# Altium footprint library TO-220AB-MOSFET.PcbLib: 1 footprints
Each footprint in its own frame and in the unit in brackets; x right, y up, seen from the top. Pads: shape width x height; smd on the part's side, far side on the other; paste and mask are expansions set on the pad; w line width, h text height; cw(c..) or ccw(c..) is an arc to the next point about the centre after c.
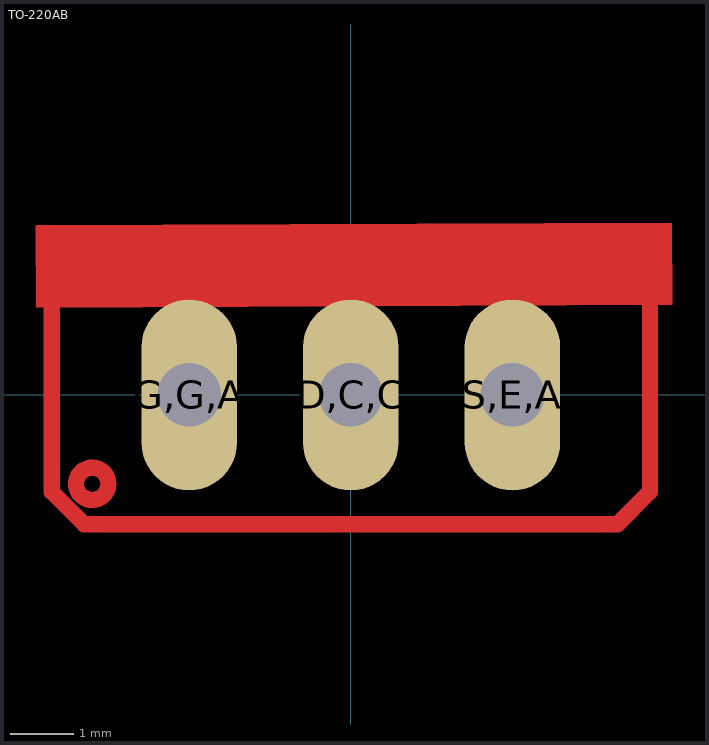
[diagram p0: the footprint, top view; thin cyan lines are the x and y axes]

## TO-220AB [mm] "TO-220AB, MOSFET, DIODE, BJT"
height 17
pads (3):
  oval 1.5x3 hole 1: D,C,C(0,0) G,G,A(-2.54,0) S,E,A(2.54,0)
Top Layer:
  circle w0.254: c-4.064,-1.397 r0.254
  region: -4.947,1.367 5.053,1.412 5.047,2.712 -4.953,2.667
  lines w0.254: -4.699,1.412 -4.699,-1.524 -4.191,-2.032 4.191,-2.032 4.699,-1.524 4.699,1.412